# Altium footprint library Capacitor.PcbLib: 107 footprints (part 7 of 7)
Each footprint in its own frame and in the unit in brackets; x right, y up, seen from the top. Pads: shape width x height; smd on the part's side, far side on the other; paste and mask are expansions set on the pad; w line width, h text height; cw(c..) or ccw(c..) is an arc to the next point about the centre after c.
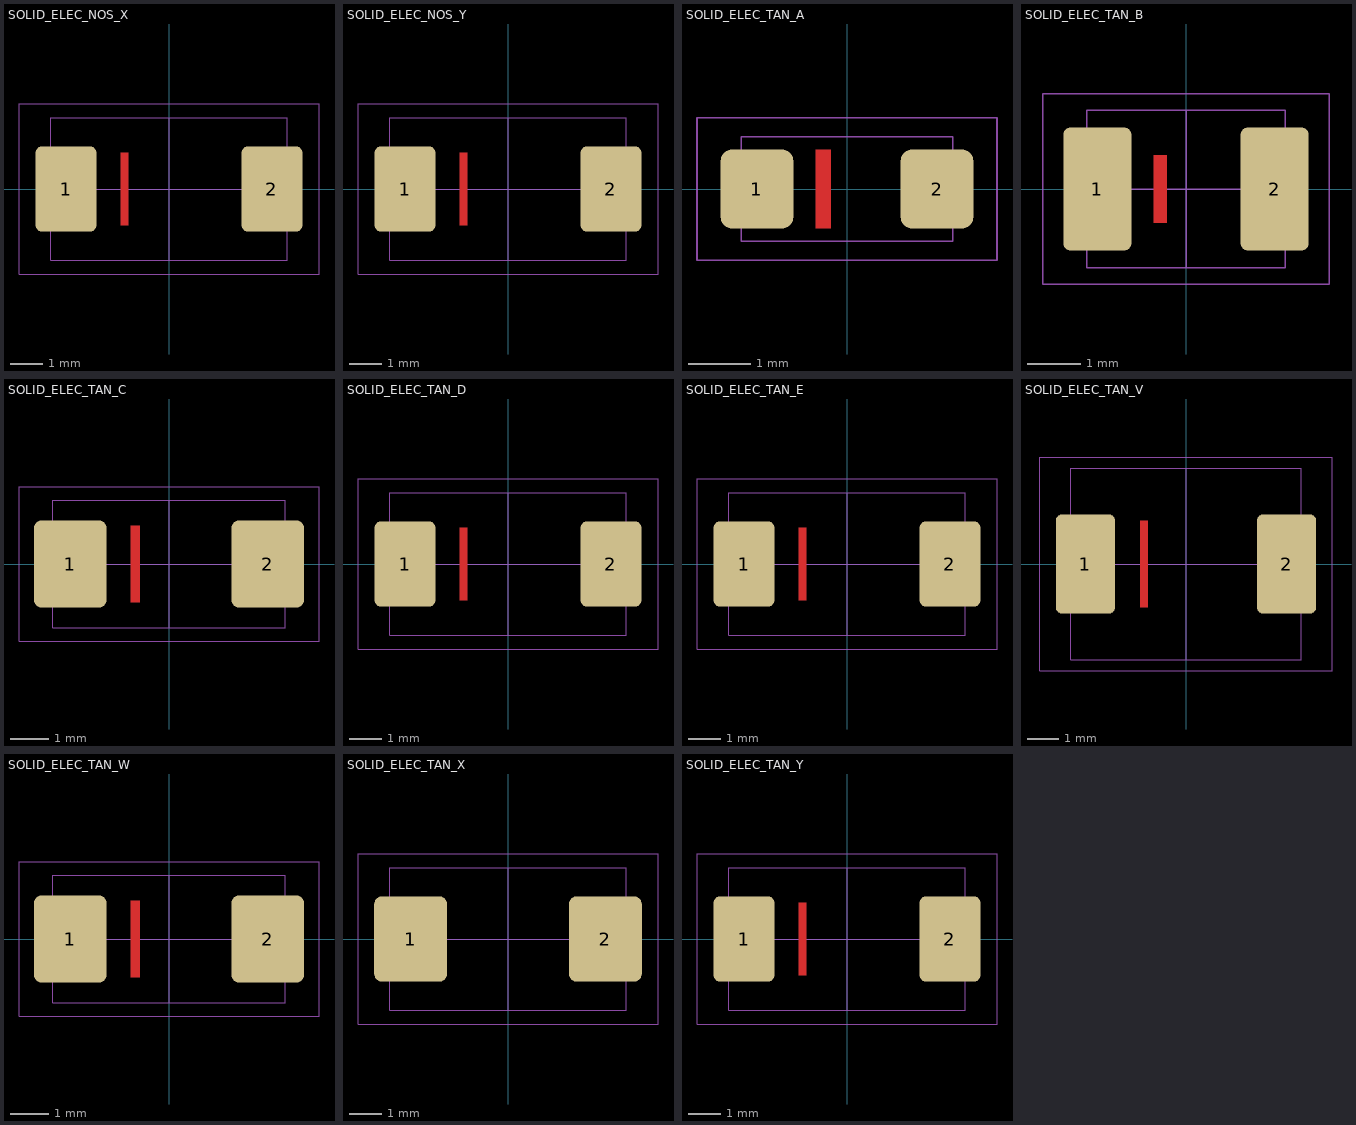
[diagram p6: the footprints below, top view; thin cyan lines are the x and y axes]

## SOLID_ELEC_NOS_X [mil]
pads (2):
  rrect20% 75x105 smd paste-5: 1(-127,0) 2(127,0)
Top Layer:
  region: -49.82,45.01 -59.82,45.01 -59.82,-44.99 -49.82,-44.99
Top Designator:
  text ".Designator" at -127.64,-12.5 h35
Top Courtyard:
  lines w1: -185,-105 185,-105 185,105 -185,105 -185,-105
Top Component Outline:
  lines w1: -145.66,0 145.66,0 ; 0,-87.6 0,87.6 ; -145.66,-87.6 -145.66,87.6 145.66,87.6 145.66,-87.6 -145.66,-87.6
3D body: height 54.5, standoff 54, extent -61.83,45.02 -41.91,64.98
3D body: height 54.5, standoff 54, extent -66.83,20.01 -36.83,60.01
3D body "NOS_X.stp": height 54.26, standoff -0.86, extent -145.67,-87.6 145.66,87.6

## SOLID_ELEC_NOS_Y [mil]
pads (2):
  rrect20% 75x105 smd paste-5: 1(-127,0) 2(127,0)
Top Layer:
  region: -49.82,45.01 -59.82,45.01 -59.82,-44.99 -49.82,-44.99
Top Designator:
  text ".Designator" at -127.64,-12.5 h35
Top Courtyard:
  lines w1: -185,-105 -185,105 185,105 185,-105 -185,-105
Top Component Outline:
  lines w1: -145.66,0 145.66,0 ; 0,-87.6 0,87.6 ; -145.66,-87.6 145.66,-87.6 145.66,87.6 -145.66,87.6 -145.66,-87.6
3D body "NOS_Y.stp": height 74.1, standoff -0.7, extent -145.67,-87.6 145.66,87.6
3D body: height 74.5, standoff 74, extent -86.83,20.01 -56.83,60.01
3D body: height 74.5, standoff 74, extent -81.83,45.02 -61.91,64.98

## SOLID_ELEC_TAN_A [mil]
pads (2):
  rrect30% 46x50 smd paste-2: 1(-57,0) 2(57,0)
Top Layer:
  region: -10,25 -20,25 -20,-25 -10,-25
Top Designator:
  text ".Designator" at -127.64,-12.5 h35
Top Courtyard:
  lines w1: -95,-45 95,-45 95,45 -95,45 -95,-45
Top Component Outline:
  lines w1: -66.93,-33.07 -66.93,33.07 66.93,33.07 66.93,-33.07 -66.93,-33.07
3D body "TAN_A.stp": height 66.56, standoff -0.76, extent -66.92,-33.07 66.93,33.07

## SOLID_ELEC_TAN_B [mil]
pads (2):
  rrect20% 50x90 smd paste-3: 1(-65,0) 2(65,0)
Top Layer:
  region: -14,25 -24,25 -24,-25 -14,-25
Top Designator:
  text ".Designator" at -127.64,-12.5 h35
Top Courtyard:
  lines w1: -105,-70 105,-70 105,70 -105,70 -105,-70
Top Component Outline:
  lines w1: -72.84,0 72.84,0 ; 0,-57.68 0,57.68 ; -72.84,-57.68 72.84,-57.68 72.84,57.68 -72.84,57.68 -72.84,-57.68
3D body: height 79, standoff 75, extent -30,11.5 -10,38.5
3D body "TAN_B.stp": height 78.86, standoff -1.06, extent -72.84,-57.68 72.84,57.68

## SOLID_ELEC_TAN_C [mil]
pads (2):
  rrect20% 75x90 smd paste-5: 1(-102,0) 2(102,0)
Top Layer:
  region: -30,40 -40,40 -40,-40 -30,-40
Top Designator:
  text ".Designator" at -127.64,-12.5 h35
Top Courtyard:
  lines w1: -155,-80 155,-80 155,80 -155,80 -155,-80
Top Component Outline:
  lines w1: -120.08,0 120.08,0 ; 0,-65.95 0,65.95 ; -120.08,-65.95 120.08,-65.95 120.08,65.95 -120.08,65.95 -120.08,-65.95
3D body "TAN_C.stp": height 106.09, standoff -0.2, extent -120.08,-65.95 120.08,65.94
3D body: height 106.1, standoff 105, extent -57,2 -27,42

## SOLID_ELEC_TAN_D [mil]
pads (2):
  rrect20% 75x105 smd paste-5: 1(-127,0) 2(127,0)
Top Layer:
  region: -49.82,45.01 -59.82,45.01 -59.82,-44.99 -49.82,-44.99
Top Designator:
  text ".Designator" at -127.64,-12.5 h35
Top Courtyard:
  lines w1: -185,-105 185,-105 185,105 -185,105 -185,-105
Top Component Outline:
  lines w1: -145.66,0 145.66,0 ; 0,-87.6 0,87.6 ; -145.66,-87.6 -145.66,87.6 145.66,87.6 145.66,-87.6 -145.66,-87.6
3D body: height 118, standoff 117, extent -86.82,20.01 -56.82,60.01
3D body "TAN_D.stp": height 117.91, standoff -0.2, extent -145.66,-87.6 145.66,87.6

## SOLID_ELEC_TAN_E [mil]
pads (2):
  rrect20% 75x105 smd paste-5: 1(-127,0) 2(127,0)
Top Layer:
  region: -49.82,45.01 -59.82,45.01 -59.82,-44.99 -49.82,-44.99
Top Designator:
  text ".Designator" at -127.64,-12.5 h35
Top Courtyard:
  lines w1: -185,-105 -185,105 185,105 185,-105 -185,-105
Top Component Outline:
  lines w1: -145.66,0 145.66,0 ; 0,-87.6 0,87.6 ; -145.66,-87.6 145.66,-87.6 145.66,87.6 -145.66,87.6 -145.66,-87.6
3D body "TAN_E.stp": height 165.15, standoff -0.2, extent -145.66,-87.6 145.66,87.6
3D body: height 165.3, standoff 165, extent -86.82,20.01 -56.82,60.01

## SOLID_ELEC_TAN_V [mil]
pads (2):
  rrect20% 75x125 smd paste-5: 1(-127,0) 2(127,0)
Top Layer:
  region: -47.82,55 -57.82,55 -57.82,-55 -47.82,-55
Top Designator:
  text ".Designator" at -127.64,-12.5 h35
Top Courtyard:
  lines w1: -185,-135 185,-135 185,135 -185,135 -185,-135
Top Component Outline:
  lines w1: -145.67,0 145.67,0 ; 0,-121.06 0,121.06 ; -145.67,-121.06 -145.67,121.06 145.67,121.06 145.67,-121.06 -145.67,-121.06
3D body "TAN_V.stp": height 144.38, standoff -0.11, extent -145.67,-121.06 145.67,121.06
3D body: height 145, standoff 144, extent -60,50 -30,90

## SOLID_ELEC_TAN_W [mil]
pads (2):
  rrect20% 75x90 smd paste-5: 1(-102,0) 2(102,0)
Top Layer:
  region: -30,40 -40,40 -40,-40 -30,-40
Top Designator:
  text ".Designator" at -127.64,-12.5 h35
Top Courtyard:
  lines w1: -155,-80 -155,80 155,80 155,-80 -155,-80
Top Component Outline:
  lines w1: -120.08,0 120.08,0 ; 0,-65.95 0,65.95 ; -120.08,-65.95 -120.08,65.95 120.08,65.95 120.08,-65.95 -120.08,-65.95
3D body: height 56, standoff 55, extent -57,2 -27,42
3D body "TAN_W.stp": height 55.77, standoff -1.33, extent -120.08,-65.95 120.08,65.95

## SOLID_ELEC_TAN_X [mil]
pads (2):
  rrect20% 90x105 smd paste-5: 1(-120,0) 2(120,0)
Top Solder:
  region: -29.82,45.01 -44,45.01 -44,-44.99 -29.82,-44.99
Top Designator:
  text ".Designator" at -127.64,-12.5 h35
Top Courtyard:
  lines w1: -185,-105 -185,105 185,105 185,-105 -185,-105
Top Component Outline:
  lines w1: -145.66,0 145.66,0 ; 0,-87.6 0,87.6 ; -145.66,-87.6 145.66,-87.6 145.66,87.6 -145.66,87.6 -145.66,-87.6
3D body: height 169, standoff 157.48, extent -98,31 -68,71
3D body "t543x.stp": height 168.51, standoff -0.82, extent -149.6,-90.55 149.61,90.55

## SOLID_ELEC_TAN_Y [mil]
pads (2):
  rrect20% 75x105 smd paste-5: 1(-127,0) 2(127,0)
Top Layer:
  region: -49.82,45.01 -59.82,45.01 -59.82,-44.99 -49.82,-44.99
Top Designator:
  text ".Designator" at -127.64,-12.5 h35
Top Courtyard:
  lines w1: -185,-105 -185,105 185,105 185,-105 -185,-105
Top Component Outline:
  lines w1: -145.66,0 145.66,0 ; 0,-87.6 0,87.6 ; -145.66,-87.6 145.66,-87.6 145.66,87.6 -145.66,87.6 -145.66,-87.6
3D body "TAN_Y.stp": height 74.1, standoff -0.7, extent -145.67,-87.6 145.66,87.6
3D body: height 74.5, standoff 74, extent -86.83,20.01 -56.83,60.01